# Altium schematic symbol library DCDC.SchLib: 17 symbols
Pins are listed as number, name and electrical type; pins without a type are passive.

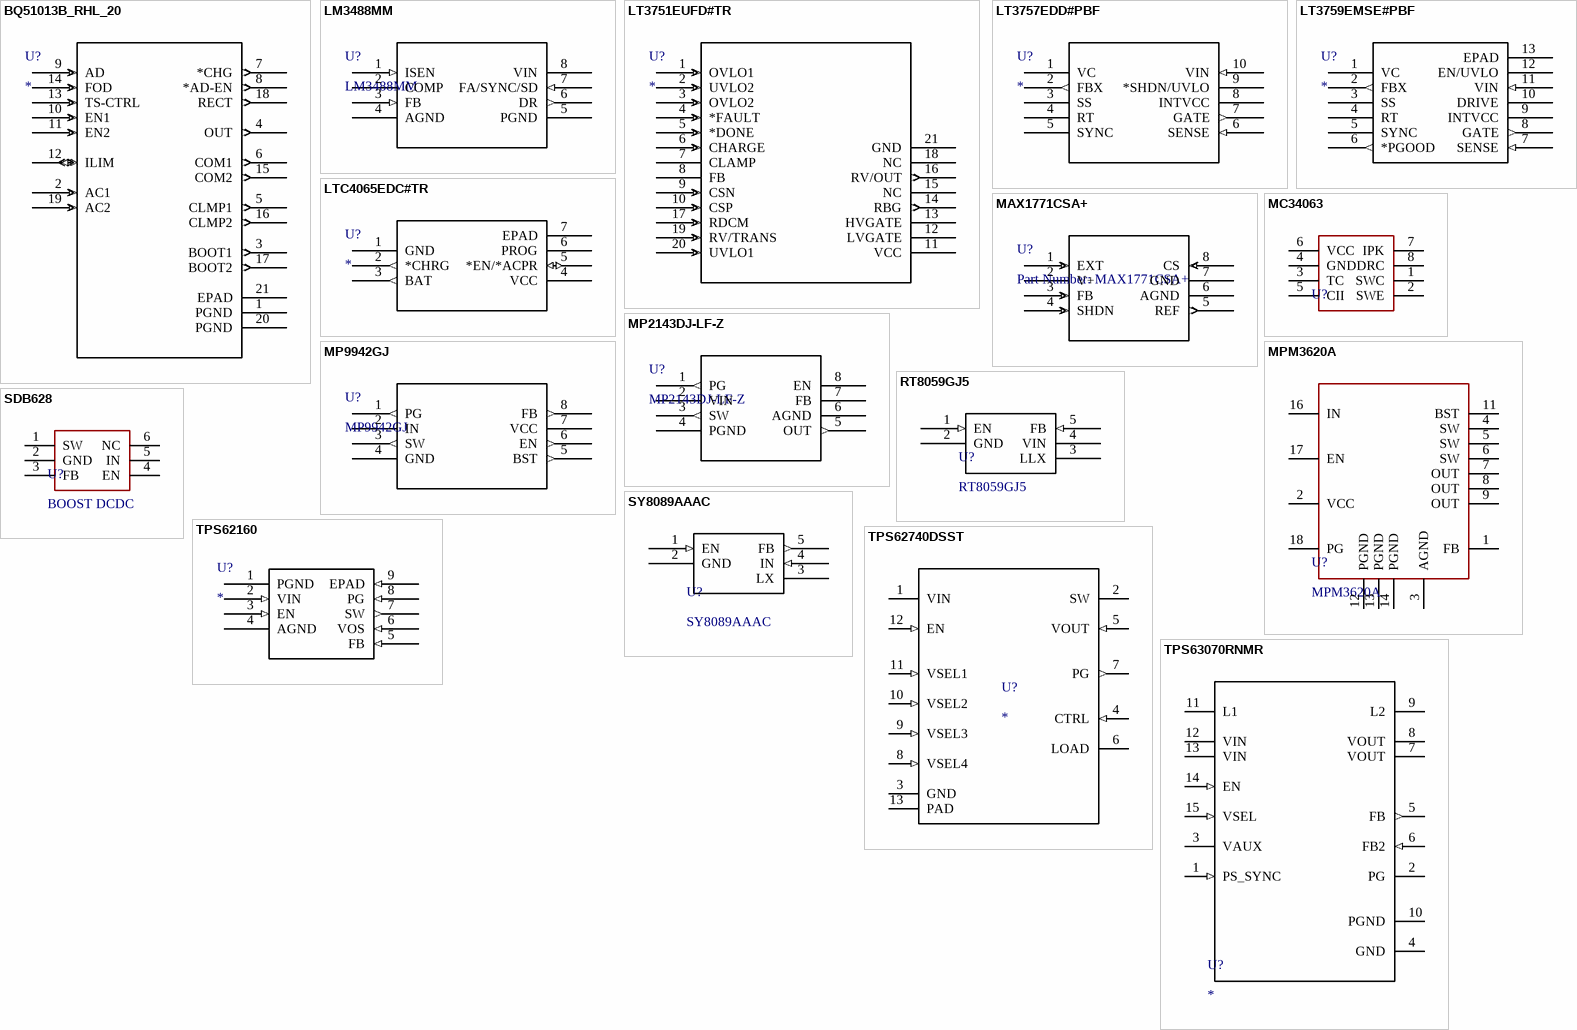
[diagram p0: symbols BQ51013B_RHL_20 to TPS63070RNMR]

## BQ51013B_RHL_20
designator U?
Imported; Manufacturer: Texas Instruments; Manufacturer_Part_Number: bq51013b_rhl_20; GENERIC_PART_NUMBER: BQ51013B; INDUSTRY_STD_PKG_TYPE: QFN; FAMILY_NAME: Wireless Power - Receiver Solutions; PIN_COUNT: 20; PACKAGE_DESIGNATOR: RHL; Datasheet_URL: http://www.ti.com/lit/gpn/BQ51013B; Vendor: Texas Instruments; RefDes: RefDes; Type: Type; Value: Value
footprint BQ51013B
pins: 1 PGND (power), 2 AC1 (in), 3 BOOT1 (out), 4 OUT (out), 5 CLMP1 (out), 6 COM1 (out), 7 *CHG (out), 8 *AD-EN (out), 9 AD (in), 10 EN1 (in), 11 EN2 (in), 12 ILIM (io), 13 TS-CTRL (in), 14 FOD (in), 15 COM2 (out), 16 CLMP2 (out), 17 BOOT2 (out), 18 RECT (out), 19 AC2 (in), 20 PGND (power), 21 EPAD

## LM3488MM
designator U?
No Description Available; Mfr_Name: Texas Instruments; Copyright: Copyright (C) 2021 Ultra Librarian. All rights reserved.; Manufacturer_Part_Number: LM3488MM; RefDes: RefDes; Type: DEV
footprint LM3488MM
pins: 1 ISEN (in), 2 COMP, 3 FB (in), 4 AGND (power), 5 PGND (power), 6 DR (out), 7 FA/SYNC/SD (in), 8 VIN (power)

## LT3751EUFD#TR
designator U?
Imported; Manufacturer_Part_Number: lt3751eufd#tr; Vendor: Linear Technology; C: Copyright (C) 2016 Accelerated Designs. All rights reserved; Copyright: Copyright (C) 2015 Accelerated Designs. All rights reserved; RefDes: RefDes; Type: Type; Value: Value
footprint LT3751EUFD
pins: 1 OVLO1 (in), 2 UVLO2 (in), 3 OVLO2 (in), 4 *FAULT (in), 5 *DONE (in), 6 CHARGE (in), 7 CLAMP, 8 FB, 9 CSN (in), 10 CSP (in), 11 VCC (power), 12 LVGATE, 13 HVGATE, 14 RBG (out), 15 NC, 16 RV/OUT (out), 17 RDCM (in), 18 NC, 19 RV/TRANS (in), 20 UVLO1 (in), 21 GND (power)

## LT3757EDD#PBF
designator U?
Imported; Manufacturer_Part_Number: lt3757edd#pbf; Vendor: Linear Technology; Value: Value; Type: Type; RefDes: RefDes
footprint LT3757EDD
pins: 1 VC, 2 FBX (out), 3 SS, 4 RT, 5 SYNC, 6 SENSE (in), 7 GATE (out), 8 INTVCC, 9 *SHDN/UVLO, 10 VIN (in), 11 EPAD hidden

## LT3759EMSE#PBF
designator U?
Imported; Manufacturer_Part_Number: lt3759emse#pbf; Vendor: Linear Technology; Value: Value; Type: Type; RefDes: RefDes
footprint LT3759
pins: 1 VC, 2 FBX (out), 3 SS, 4 RT, 5 SYNC, 6 *PGOOD (out), 7 SENSE (in), 8 GATE (out), 9 INTVCC, 10 DRIVE, 11 VIN (in), 12 EN/UVLO, 13 EPAD

## LTC4065EDC#TR
designator U?
Imported; Manufacturer_Part_Number: ltc4065edc#tr; Vendor: Linear Technology; Value: Value; Type: Type; RefDes: RefDes
footprint DFN-6_DC
pins: 1 GND (power), 2 *CHRG (out), 3 BAT (out), 4 VCC (power), 5 *EN/*ACPR (io), 6 PROG, 7 EPAD

## MAX1771CSA+
designator U?, comment Part Number: MAX1771CSA+
No Description Available; Vendor: Maxim Integrated Products; Built_By: EMA_UL_Team; Manufacturer_Part_Number: MAX1771CSA+; Copyright: Copyright (C) 2018 Accelerated Designs. All rights reserved; RefDes: RefDes; Type: DEV; Value: Value
footprint MAX1771
pins: 1 EXT (in), 2 V+ (power), 3 FB (in), 4 SHDN (in), 5 REF (out), 6 AGND (power), 7 GND (power), 8 CS (in)

## MC34063
designator U?, comment dc-dc  (value not drawn)
footprint WSON8
pins: 1 SWC, 2 SWE, 3 TC, 4 GND, 5 CII, 6 VCC, 7 IPK, 8 DRC

## MP2143DJ-LF-Z
designator U?
No Description Available; Mfr_Name: Monolithic Power Systems; Copyright: Copyright (C) 2021 Ultra Librarian. All rights reserved.; Manufacturer_Part_Number: MP2143DJ-LF-Z; RefDes: RefDes; Type: DEV
footprint MP2143DJ
pins: 1 PG (out), 2 VIN (power), 3 SW (out), 4 PGND, 5 OUT (out), 6 AGND, 7 FB, 8 EN

## MP9942GJ
designator U?
No Description Available; Manufacturer_Part_Number: MP9942GJ; RefDes: RefDes; Type: DEV
footprint MP9942
pins: 1 PG (out), 2 IN (power), 3 SW (out), 4 GND (power), 5 BST (out), 6 EN (out), 7 VCC (power), 8 FB (out)

## MPM3620A
designator U?
footprint MPM3620
pins: 1 FB, 2 VCC, 3 AGND, 4 SW, 5 SW, 6 SW, 7 OUT, 8 OUT, 9 OUT, 11 BST, 12 PGND, 13 PGND, 14 PGND, 16 IN, 17 EN, 18 PG

## RT8059GJ5
designator U?
No Description Available; Mfr_Name: Richtek Technology; Copyright: Copyright (C) 2021 Ultra Librarian. All rights reserved.; Manufacturer_Part_Number: RT8059GJ5; Digi-Key_Part_Number_1: 1028-1493-1-ND; Digi-Key_Part_Number_2: 1028-1493-2-ND; Digi-Key_Part_Number_3: 1028-1493-6-ND; RefDes: RefDes; Type: DEV
footprint RT8059
pins: 1 EN (in), 2 GND, 3 LLX (power), 4 VIN (power), 5 FB (in)

## SDB628
designator U?, comment BOOST DCDC
footprint SOT23-6
pins: 1 SW, 2 GND, 3 FB, 4 EN, 5 IN, 6 NC

## SY8089AAAC
designator U?
No Description Available; Mfr_Name: Silergy; Copyright: Copyright (C) 2021 Ultra Librarian. All rights reserved.; Manufacturer_Part_Number: SY8089AAAC; RefDes: RefDes; Type: DEV
footprint SY8089AAAC
pins: 1 EN (in), 2 GND, 3 LX, 4 IN (in), 5 FB (out)

## TPS62160
designator U?
DC-DC; Manufacturer: Texas Instruments; GENERIC_PART_NUMBER: TPS62160; Manufacturer_Part_Number: tps62160_dsg_8; INDUSTRY_STD_PKG_TYPE: WSON; FAMILY_NAME: STEP-DOWN REGULATOR; PIN_COUNT: 8; PACKAGE_DESIGNATOR: DSG; Datasheet_URL: http://www.ti.com/lit/gpn/TPS62160; Vendor: Texas Instruments; Value: Value; Type: Type; RefDes: RefDes
footprint TPS62160 (DCDC step-down)
pins: 1 PGND (power), 2 VIN (in), 3 EN (in), 4 AGND (power), 5 FB (in), 6 VOS (in), 7 SW (out), 8 PG (in), 9 EPAD (in)

## TPS62740DSST
designator U?
2.2V-5.5V input, ultra-low-power 300mA step-down buck DCDC converter with 360nA Iq; PartNumber: TPS62740DSS; Alternate_Manufacturer: None; Manufacturer: Texas Instruments; CurrentTime: Not shown in title block; DocumentNumber: 1; SymbolCreator: a0411947; CompType: IC; U/M: EA; Designator: U?; PIN_COUNT: 13; CurrentDate: Not shown in title block; Time: Not shown in title block; Date: Not shown in title block; DocumentFullPathAndName: Not shown in title block; DocumentName: Not shown in title block; ModifiedDate: Not shown in title block; ApprovedBy: Not shown in title block; CheckedBy: Not shown in title block; Author: Not shown in title block; CompanyName: Not shown in title block; Engineer: Not shown in title block; Organization: Not shown in title block; Address1: Not shown in title block; Address2: Not shown in title block; Address3: Not shown in title block; Address4: Not shown in title block; Revision: Use project parameter SCH_Rev; SheetNumber: 1; SheetTotal: 1; ImagePath: Not shown in title block; Rule: *; ProjectName: *; SymbolVersion: 2014-02-03; PackageReference: DSS0012A; MountType: SMT; ComponentLink1Description: Datasheet Link; ComponentLink1URL: http://www.ti.com/lit/ds/symlink/tps62740.pdf; RoHS: Y; Publisher: Texas Instruments; LatestRevisionDate: 2014-02-11; Value: Value; Type: Type; RefDes: Refdes
footprint TPS62740
pins: 1 VIN (power), 2 SW (power), 3 GND (power), 4 CTRL (in), 5 VOUT (in), 6 LOAD (power), 7 PG (out), 8 VSEL4 (in), 9 VSEL3 (in), 10 VSEL2 (in), 11 VSEL1 (in), 12 EN (in), 13 PAD (power)

## TPS63070RNMR
designator U?
DC-DC Input 2.0V - 16V, Output 2.5V - 9V, 2A; PartNumber: TPS63070RNMR; Manufacturer: Texas Instruments; RefDes: RefDes; TYPE: TYPE; Value: Value
footprint TPS63070RNMR (VQFN 15)
pins: 1 PS_SYNC (in), 2 PG (oc), 3 VAUX, 4 GND (power), 5 FB (out), 6 FB2 (in), 7 VOUT (power), 8 VOUT (power), 9 L2, 10 PGND (power), 11 L1, 12 VIN (power), 13 VIN (power), 14 EN (in), 15 VSEL (in)